# EAGLE library part 1-776280-1 (library 1-776280-1)
8 POS RTANG HDR ASSY W/GASKET
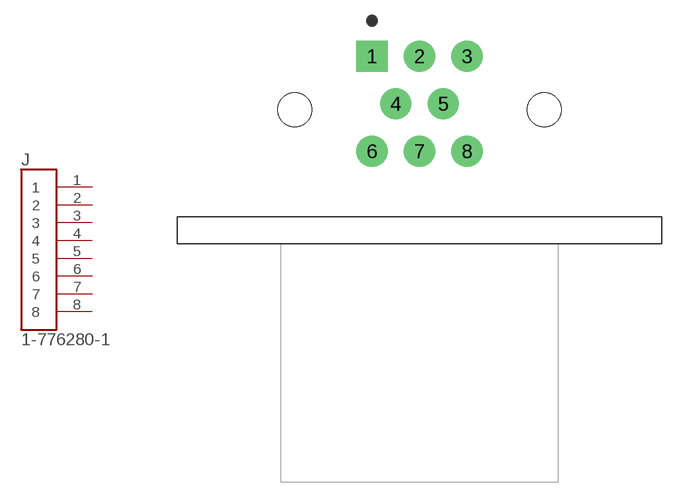
[diagram p0: symbol with the pads of TE_1-776280-1; footprint TE_1-776280-1]

Designator prefix J

## 1-776280-1 (MANUFACTURER: TE Connectivity; METADATA: Manufacturer recommendations; PARTREV: F8)  [TE_1-776280-1]
1  1  pas
2  2  pas
3  3  pas
4  4  pas
5  5  pas
6  6  pas
7  7  pas
8  8  pas

## Footprint TE_1-776280-1 (pad centres in mm)
drill 1.75 square: 1 -4,4.5
drill 1.75: 2 0,4.5; 3 4,4.5; 4 -2,0.5; 5 2,0.5; 6 -4,-3.5; 7 0,-3.5; 8 4,-3.5
hole 2.85 at -10.5,0
hole 2.85 at 10.5,0